# Altium footprint library PCB1.PcbLib: 30 footprints (part 2 of 2)
Each footprint in its own frame and in the unit in brackets; x right, y up, seen from the top. Pads: shape width x height; smd on the part's side, far side on the other; paste and mask are expansions set on the pad; w line width, h text height; cw(c..) or ccw(c..) is an arc to the next point about the centre after c.
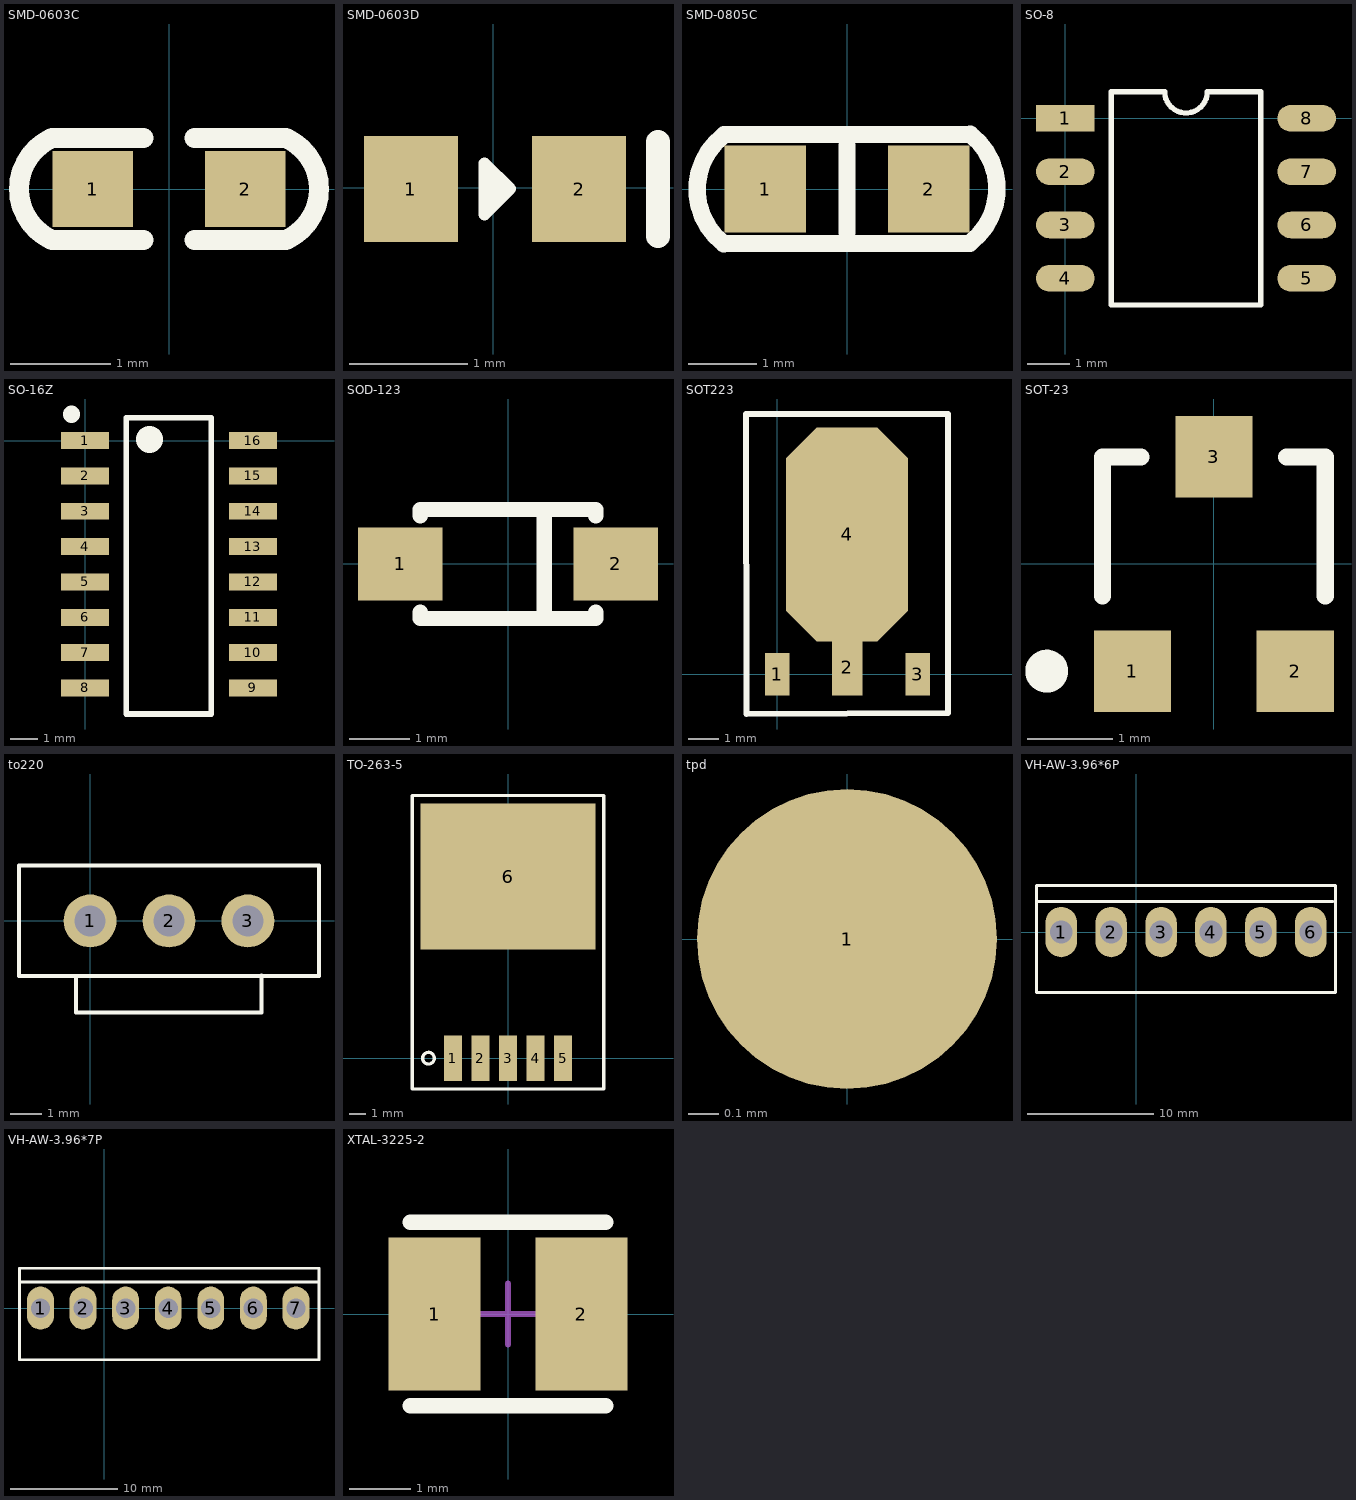
[diagram p1: the footprints below, top view; thin cyan lines are the x and y axes]

## SMD-0603C [mil]
pads (2):
  rect 31.5x30 smd: 1(-30,0) 2(30,0)
Top Overlay:
  lines w7.87: -46.3,-19.94 cw(c-37,0) -46.3,19.94 ; -46,-20 -10,-20 ; -46,20 -10,20 ; 10,-20 46,-20 ; 10,20 46,20 ; 46.3,-19.94 ccw(c37,0) 46.3,19.94
3D body: height 31.5, standoff 0, extent -32.27,-15.75 32.27,15.75

## SMD-0603D [mm]
pads (2):
  rect 0.8x0.9 smd: 1(-0.7,-0.012) 2(0.73,-0.012)
Top Overlay:
  lines w0.1: 0.143,-0.011 -0.075,0.208 -0.075,-0.229 0.144,-0.011
  lines w0.15: 0,-0.088 0,0.088
  lines w0.2: 1.4,-0.412 1.4,0.388
3D body: height 0.6, standoff 0, extent -0.8,-0.393 0.8,0.407

## SMD-0805C [mm]
pads (2):
  rect 1.2x1.27 smd: 1(-1.2,0) 2(1.2,0)
Top Overlay:
  lines w0.254: -1.808,-0.801 cw(c-1.2,-0.007) -1.801,0.792 ; -1.8,-0.8 1.8,-0.8 ; -1.8,0.8 1.8,0.8 ; 0,-0.635 0,0.635 ; 1.801,-0.792 ccw(c1.2,0.007) 1.808,0.801
3D body: height 0.93, standoff -0.01, extent -1.425,-0.667 1.575,0.733

## SO-8 [mil]
pads (8):
  rect 55x25 smd: 1(0,0)
  oval 55x25 smd: 2(0,-50) 3(0,-100) 4(0,-150) 5(226.38,-150) 6(226.38,-100) 7(226.38,-50) 8(226.38,0)
Top Overlay:
  lines w5: 43.19,-175 43.19,25 93.19,25 ccw(c113.19,25) 133.19,25 183.19,25 183.19,-175 43.19,-175

## SO-16Z [mil]
pads (16):
  rect 68x24 smd: 1(0,0) 2(0,-50) 3(0,-100) 4(0,-150) 5(0,-200) 6(0,-250) 7(0,-300) 8(0,-350) 9(237.11,-350) 10(237.11,-300) 11(237.11,-250) 12(237.11,-200) 13(237.11,-150) 14(237.11,-100) 15(237.11,-50) 16(237.11,0)
Top Overlay:
  lines w8: 58.07,-386.81 178.35,-386.81 178.35,32.28 58.07,32.28 58.07,-386.81
  lines w24: -19.49,37.2 -19.49,37.6
  lines w38: 91.04,1.48 91.04,1.87

## SOD-123 [mm]
pads (2):
  rect 1.4x1.2 smd: 1(-1.778,0) 2(1.778,0)
Top Overlay:
  lines w0.254: -1.45,-0.8 -1.45,-0.9 1.45,-0.9 1.45,-0.8 ; -1.45,0.8 -1.45,0.9 1.45,0.9 1.45,0.8 ; 0.6,-0.9 0.6,0.9
3D body: height 1.2, standoff 0, extent -1.85,-0.8 1.85,0.8

## SOT223 [mm]
height 11.1
pads (4):
  rect 0.8x1.4 smd: 1(0,0) 3(4.6,0)
  rect 1x1.854 smd: 2(2.3,0.227)
  oct 4x7 smd: 4(2.286,4.572)
Top Overlay:
  lines w0.2: -1.016,8.509 -1,-1.3 5.588,-1.27 5.588,8.509 -1.016,8.509

## SOT-23 [mm] "SOT-23; 3 Leads; Body 3.0 x 2.6 mm, inc. leads (LxW max)"
height 1.1
pads (3):
  rect 0.9x0.95 smd: 1(-0.95,-1.25) 2(0.95,-1.25) 3(0,1.25)
Top Overlay:
  circle w0.25: c-1.95,-1.25 r0.125
  lines w0.2: -1.3,-0.375 -1.3,1.25 -0.85,1.25 ; 0.85,1.25 1.3,1.25 1.3,-0.375

## to220 [mm]
height 2.65
pads (3):
  round 1.7 hole 1: 1(0,0) 2(2.54,0) 3(5.08,0)
Top Overlay:
  lines w0.127: -0.457,-1.805 -0.457,-2.948 5.512,-2.948 5.512,-1.757 ; -2.29,-1.78 -2.29,1.78 7.37,1.78 7.37,-1.78 6.5,-1.78 -2.29,-1.78

## TO-263-5 [mm]
pads (6):
  rect 1.1x2.8 smd: 1(-3.4,0) 2(-1.7,0) 3(0,0) 4(1.7,0) 5(3.4,0)
  rect 10.8x9 smd: 6(0,11.2)
Top Overlay:
  circle w0.2: c-4.902,0 r0.359
  lines w0.2: -5.9,-1.9 -5.9,16.2 5.9,16.2 5.9,-1.9 -5.9,-1.9
3D body: height 4.57, standoff -0.01, extent -5.08,-0.323 5.08,14.318

## tpd [mm]
height 1.4
pads (1):
  round 1 smd: 1(0,0)

## VH-AW-3.96*6P [mm]
pads (6):
  oval 2.5x4 hole 1.8: 1(-5.94,0) 2(-1.98,0) 3(1.98,0) 4(5.94,0) 5(9.9,0) 6(13.86,0)
Top Overlay:
  lines w0.254: -7.89,2.43 15.621,2.43 ; -7.89,-4.8 -7.89,3.7 15.824,3.7 15.824,-4.8 -7.89,-4.8

## VH-AW-3.96*7P [mm]
pads (7):
  oval 2.5x4 hole 1.8: 1(-5.94,0) 2(-1.98,0) 3(1.98,0) 4(5.94,0) 5(9.9,0) 6(13.86,0) 7(17.82,0)
Top Overlay:
  lines w0.254: -7.89,2.43 19.888,2.43 ; -7.89,-4.8 19.964,-4.8 19.964,3.7 -7.89,3.7 -7.89,-4.8

## XTAL-3225-2 [mm]
pads (2):
  rect 1.5x2.5 smd: 1(-1.2,0) 2(1.2,0)
Top Overlay:
  lines w0.254: -1.6,-1.5 1.6,-1.5 ; -1.6,1.5 1.6,1.5
Mechanical 15:
  lines w0.1: -0.5,0 0.5,0 ; 0,-0.5 0,0.5
3D body: height 0.9, standoff 0, extent -1.6,-1.25 1.6,1.25